# Altium footprint library Wurth_Elektronik_Passive_rev16a.PCBLIB: 810 footprints (part 48 of 51)
Each footprint in its own frame and in the unit in brackets; x right, y up, seen from the top. Pads: shape width x height; smd on the part's side, far side on the other; paste and mask are expansions set on the pad; w line width, h text height; cw(c..) or ccw(c..) is an arc to the next point about the centre after c.
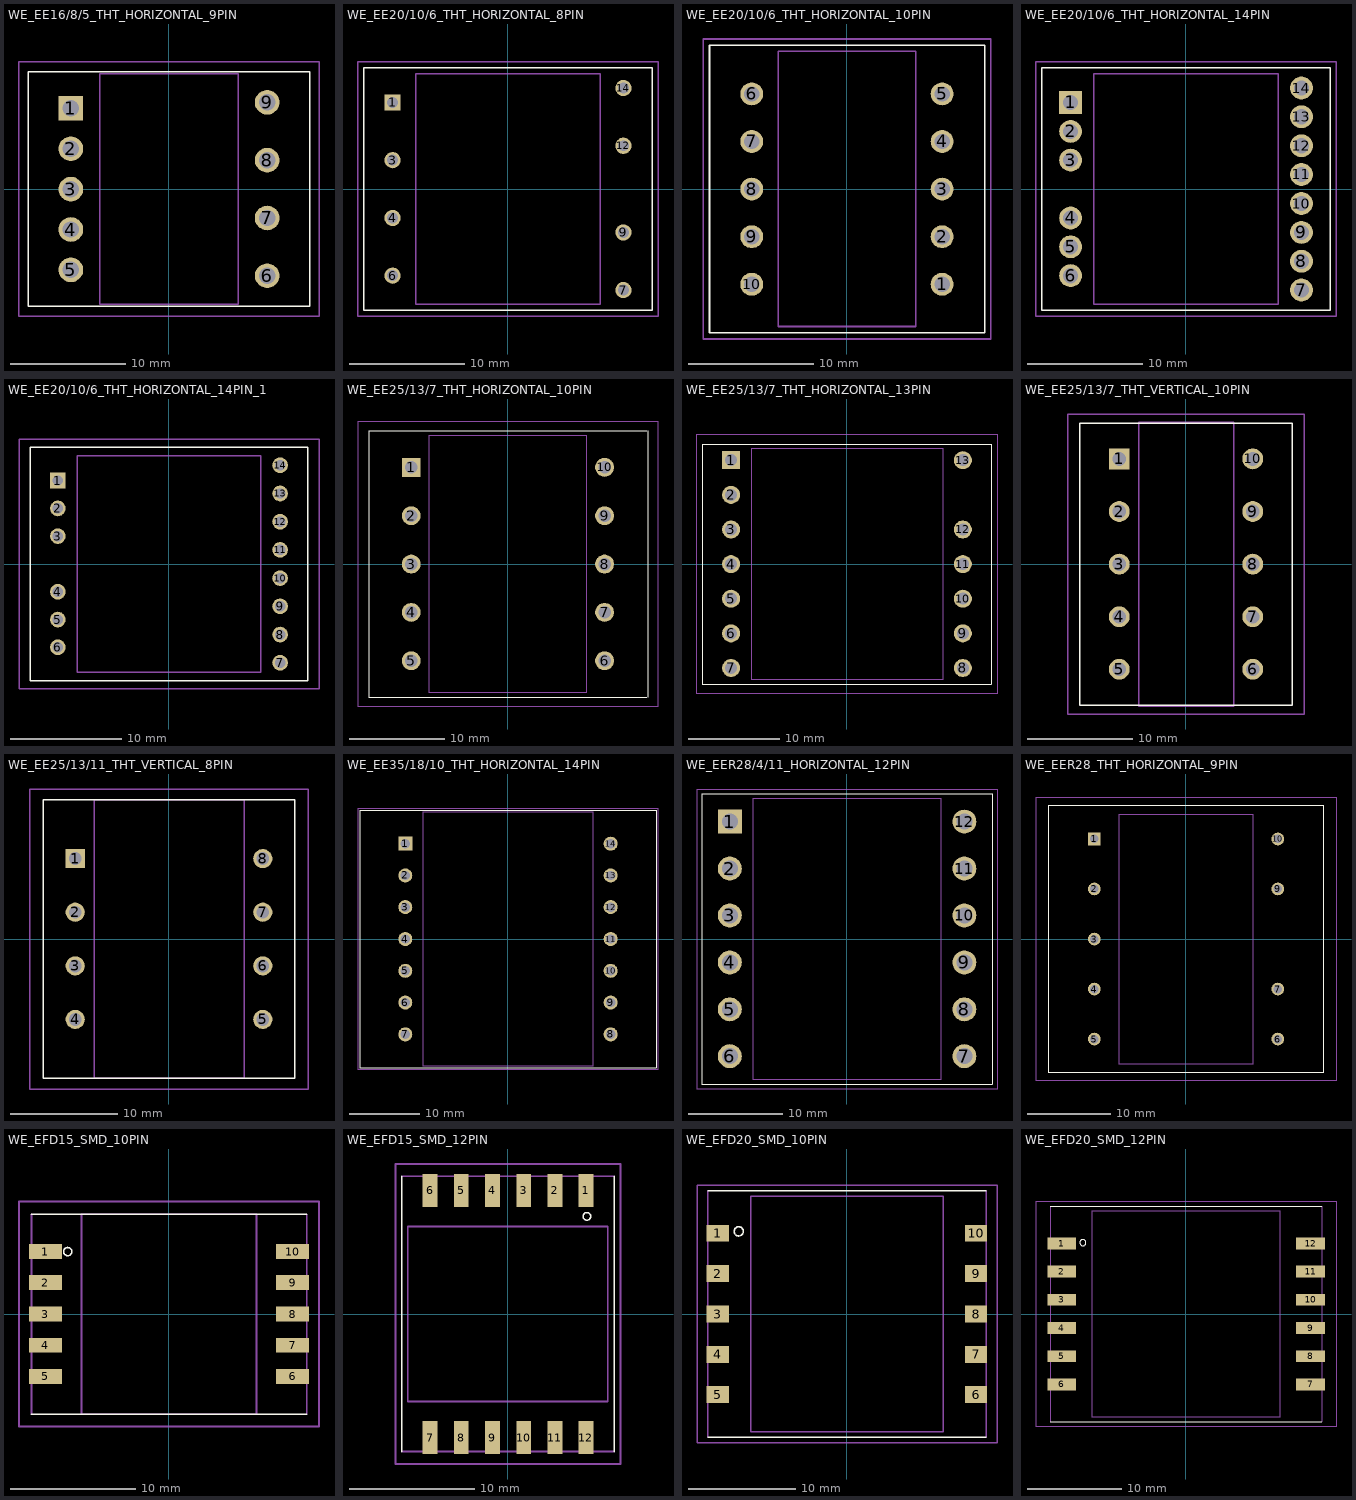
[diagram p47: the footprints below, top view; thin cyan lines are the x and y axes]

## WE_EE16/8/5_THT_HORIZONTAL_9PIN [mil]
pads (9):
  rect 84x84 hole 56: 1(-334.65,276)
  round 84 hole 56: 2(-334.65,138) 3(-334.65,0) 4(-334.65,-137.8) 5(-334.65,-275.59) 6(335,-295.28) 7(335,-98.43) 8(335,99) 9(335,296)
Top Overlay:
  lines w5: -479.92,-400 480,-400 480,400 -479.92,400 -479.92,-400
Mechanical 2:
  text ">NAME" at -590.61,557 h77.5
Mechanical 4:
  text ">VALUE" at -590.61,-626.31 h77.5
Mechanical 10:
  lines w5: -236.22,-393.7 237,-393.7 237,394 -236.22,394 -236.22,-393.7
Mechanical 27:
  lines w5: -511.81,-433.07 512,-433.07 512,434 -511.81,434 -511.81,-433.07

## WE_EE20/10/6_THT_HORIZONTAL_8PIN [mil]
pads (8):
  rect 55.5x55.5 hole 37: 1(-393.7,296)
  round 55.5 hole 37: 3(-393.7,99) 4(-393.7,-98.43) 6(-393.7,-295.28) 7(394,-344.49) 9(394,-147.64) 12(394,148) 14(394,345)
Top Overlay:
  lines w5: -492.13,-413.39 493,-413.39 493,414 -492.13,414 -492.13,-413.39
Mechanical 2:
  text ">NAME" at -630.93,587 h77.5
Mechanical 4:
  text ">VALUE" at -630.93,-656.54 h77.5
Mechanical 10:
  lines w5: -314.96,-393.7 315,-393.7 315,394 -314.96,394 -314.96,-393.7
Mechanical 27:
  lines w5: -511.81,-433.07 512,-433.07 512,434 -511.81,434 -511.81,-433.07

## WE_EE20/10/6_THT_HORIZONTAL_10PIN [mil]
pads (10):
  round 72 hole 48: 1(300,-300) 2(300,-150) 3(300,0) 4(300,150) 5(300,300) 6(-300,300) 7(-300,150) 8(-300,0) 9(-300,-150) 10(-300,-300)
Top Overlay:
  lines w5: -433.07,-452.76 434,-452.76 434,453 -433.07,453 -433.07,-452.76
Mechanical 2:
  text ">NAME" at -413.39,532 h77.5
Mechanical 4:
  text ">VALUE" at -374.02,-570.87 h77.5
Mechanical 10:
  lines w5: -216.54,-433.07 217,-433.07 217,434 -216.54,434 -216.54,-433.07
Mechanical 27:
  lines w5: -452.76,-472.44 453,-472.44 453,473 -452.76,473 -452.76,-472.44

## WE_EE20/10/6_THT_HORIZONTAL_14PIN [mil]
pads (14):
  rect 78x78 hole 52: 1(-393.7,296)
  round 78 hole 52: 2(-393.7,197) 3(-393.7,99) 4(-393.7,-98.43) 5(-393.7,-196.85) 6(-393.7,-295.28) 7(394,-344.49) 8(394,-246.06) 9(394,-147.64) 10(394,-49.21) 11(394,50) 12(394,148) 13(394,247) 14(394,345)
Top Overlay:
  lines w5: -492.13,-413.39 493,-413.39 493,414 -492.13,414 -492.13,-413.39
Mechanical 2:
  text ">NAME" at -492.13,473 h77.5
Mechanical 4:
  text ">VALUE" at -492.13,-531.5 h77.5
Mechanical 10:
  lines w5: -314.96,-393.7 315,-393.7 315,394 -314.96,394 -314.96,-393.7
Mechanical 27:
  lines w5: -511.81,-433.07 512,-433.07 512,434 -511.81,434 -511.81,-433.07

## WE_EE20/10/6_THT_HORIZONTAL_14PIN_1 [mil]
pads (14):
  rect 55.5x55.5 hole 37: 1(-393.7,296)
  round 55.5 hole 37: 2(-393.7,197) 3(-393.7,99) 4(-393.7,-98.43) 5(-393.7,-196.85) 6(-393.7,-295.28) 7(394,-350) 8(394,-250) 9(394,-150) 10(394,-50) 11(394,50) 12(394,150) 13(394,250) 14(394,350)
Top Overlay:
  lines w5: -492.13,-413.39 493,-413.39 493,414 -492.13,414 -492.13,-413.39
Mechanical 2:
  text ">NAME" at -492.13,483 h77.5
Mechanical 4:
  text ">VALUE" at -492.13,-551.18 h77.5
Mechanical 10:
  lines w5: -324.8,-383.86 325,-383.86 325,384 -324.8,384 -324.8,-383.86
Mechanical 27:
  lines w5: -531.5,-442.91 532,-442.91 532,443 -531.5,443 -531.5,-442.91

## WE_EE25/13/7_THT_HORIZONTAL_10PIN [mil]
pads (10):
  rect 78x78 hole 52: 1(-400,400)
  round 78 hole 52: 2(-400,200) 3(-400,0) 4(-400,-200) 5(-400,-400) 6(400,-400) 7(400,-200) 8(400,0) 9(400,200) 10(400,400)
Top Overlay:
  lines w5: 575,-551.18 -574.8,-551.18 -574.8,552 575,552 ; 579,-551.18 579,552
Mechanical 2:
  text ">NAME" at -561.02,621 h77.5
Mechanical 4:
  text ">VALUE" at -531.5,-659.45 h77.5
Mechanical 10:
  lines w5: -324.8,-531.5 325,-531.5 325,532 -324.8,532 -324.8,-531.5
Mechanical 27:
  lines w5: -620.08,-590.55 621,-590.55 621,591 -620.08,591 -620.08,-590.55

## WE_EE25/13/7_THT_HORIZONTAL_13PIN [mil]
pads (13):
  rect 78x78 hole 52: 1(-501.97,450)
  round 78 hole 52: 2(-501.97,300) 3(-501.97,150) 4(-501.97,0) 5(-501.97,-150) 6(-501.97,-300) 7(-501.97,-450) 8(502,-450) 9(502,-300) 10(502,-150) 11(502,0) 12(502,150) 13(502,450)
Top Overlay:
  lines w5: -625.98,-519.68 -625.98,520 626,520 626,-519.68 -625.98,-519.68
Mechanical 2:
  text ">NAME" at -600.39,591 h77.5
Mechanical 4:
  text ">VALUE" at -570.87,-639.76 h77.5
Mechanical 10:
  lines w5: -413.39,-501.97 414,-501.97 414,502 -413.39,502 -413.39,-501.97
Mechanical 27:
  lines w5: -649.61,-561.02 650,-561.02 650,562 -649.61,562 -649.61,-561.02

## WE_EE25/13/7_THT_VERTICAL_10PIN [mil]
pads (10):
  rect 78x78 hole 52: 1(-250,394)
  round 78 hole 52: 2(-250,197) 3(-250,0) 4(-250,-196.85) 5(-250,-393.7) 6(250,-393.7) 7(250,-196.85) 8(250,0) 9(250,197) 10(250,394)
Top Overlay:
  lines w5: -397.64,-527.56 398,-527.56 398,528 -397.64,528 -397.64,-527.56
Mechanical 2:
  text ">NAME" at -383.86,601 h77.5
Mechanical 4:
  text ">VALUE" at -383.86,-629.92 h77.5
Mechanical 10:
  lines w5: -177.17,-531.5 178,-531.5 178,532 -177.17,532 -177.17,-531.5
Mechanical 27:
  lines w5: -442.91,-561.02 443,-561.02 443,562 -442.91,562 -442.91,-561.02

## WE_EE25/13/11_THT_VERTICAL_8PIN [mil]
pads (8):
  rect 70.5x70.5 hole 47: 1(-344.88,296)
  round 70.5 hole 47: 2(-344.88,99) 3(-344.88,-98.43) 4(-344.88,-295.28) 5(345,-295.28) 6(345,-98.43) 7(345,99) 8(345,296)
Top Overlay:
  lines w5: -462.6,-511.81 463,-511.81 463,512 -462.6,512 -462.6,-511.81
Mechanical 2:
  text ">NAME" at -462.6,571 h77.5
Mechanical 4:
  text ">VALUE" at -462.6,-610.24 h77.5
Mechanical 10:
  lines w5: -275.59,-511.81 276,-511.81 276,512 -275.59,512 -275.59,-511.81
Mechanical 27:
  lines w5: -511.81,-551.18 512,-551.18 512,552 -511.81,552 -511.81,-551.18

## WE_EE35/18/10_THT_HORIZONTAL_14PIN [mil]
pads (14):
  rect 78x78 hole 52: 1(-572.83,532)
  round 78 hole 52: 2(-572.83,355) 3(-572.83,178) 4(-572.83,0) 5(-572.83,-177.17) 6(-572.83,-354.33) 7(-572.83,-531.5) 8(573,-531.5) 9(573,-354.33) 10(573,-177.17) 11(573,0) 12(573,178) 13(573,355) 14(573,532)
Top Overlay:
  lines w5: -826.77,-718.5 827,-718.5 827,719 -826.77,719 -826.77,-718.5
Mechanical 2:
  text ">NAME" at -826.77,788 h77.5
Mechanical 4:
  text ">VALUE" at -826.77,-866.14 h77.5
Mechanical 10:
  lines w5: -472.44,-708.66 473,-708.66 473,709 -472.44,709 -472.44,-708.66
Mechanical 27:
  lines w5: -836.61,-728.35 837,-728.35 837,729 -836.61,729 -836.61,-728.35

## WE_EER28/4/11_HORIZONTAL_12PIN [mil]
pads (12):
  rect 100.5x100.5 hole 67: 1(-492.13,493)
  round 100.5 hole 67: 2(-492.13,296) 3(-492.13,99) 4(-492.13,-98.43) 5(-492.13,-295.28) 6(-492.13,-492.13) 7(493,-492.13) 8(493,-295.28) 9(493,-98.43) 10(493,99) 11(493,296) 12(493,493)
Top Overlay:
  lines w5: -610.24,-610.24 611,-610.24 611,611 -610.24,611 -610.24,-610.24
Mechanical 2:
  text ">NAME" at -590.55,709 h77.5
Mechanical 4:
  text ">VALUE" at -551.18,-748.03 h77.5
Mechanical 10:
  lines w5: -393.7,-590.55 394,-590.55 394,591 -393.7,591 -393.7,-590.55
Mechanical 27:
  lines w5: -629.92,-629.92 630,-629.92 630,630 -629.92,630 -629.92,-629.92

## WE_EER28_THT_HORIZONTAL_9PIN [mil]
pads (9):
  rect 60x60 hole 40: 1(-433.07,473)
  round 60 hole 40: 2(-433.07,237) 3(-433.07,0) 4(-433.07,-236.22) 5(-433.07,-472.44) 6(434,-472.44) 7(434,-236.22) 9(434,237) 10(434,473)
Top Overlay:
  lines w5: -649.61,-629.92 650,-629.92 650,630 -649.61,630 -649.61,-629.92
Mechanical 2:
  text ">NAME" at -633.89,718 h77.5
Mechanical 4:
  text ">VALUE" at -633.89,-787.57 h77.5
Mechanical 10:
  lines w5: -314.96,-590.55 315,-590.55 315,591 -314.96,591 -314.96,-590.55
Mechanical 27:
  lines w5: -708.66,-669.29 709,-669.29 709,670 -708.66,670 -708.66,-669.29

## WE_EFD15_SMD_10PIN [mil]
pads (10):
  rect 104x47 smd: 1(-389.57,197) 2(-389.57,99) 3(-389.57,0) 4(-389.57,-98.03) 5(-389.57,-196.06) 6(390,-196.06) 7(390,-98.03) 8(390,0) 9(390,99) 10(390,197)
Top Overlay:
  circle w5: c-318.9,197 r13
  lines w5: -433.07,-314.96 434,-314.96 ; -433.07,315 434,315
Mechanical 2:
  text ">NAME" at -433.07,355 h77.5
Mechanical 4:
  text ">VALUE" at -433.07,-393.7 h77.5
Mechanical 10:
  lines w5: -275.59,-314.96 276,-314.96 276,315 -275.59,315 -275.59,-314.96
Mechanical 16:
  lines w5: -433.07,-314.96 -433.07,315 ; 434,-314.96 434,315
Mechanical 27:
  lines w5: -472.44,-354.33 473,-354.33 473,355 -472.44,355 -472.44,-354.33

## WE_EFD15_SMD_12PIN [mil]
pads (12):
  rect 47x104 smd: 1(246,390) 2(148,390) 3(50,390) 4(-49.02,390) 5(-147.05,390) 6(-245.08,390) 7(-245.08,-389.57) 8(-147.05,-389.57) 9(-49.02,-389.57) 10(50,-389.57) 11(148,-389.57) 12(246,-389.57)
Top Overlay:
  circle w5: c249,308 r12
  lines w5: -334.65,-433.07 -334.65,434 ; 335,-433.07 335,434
Mechanical 2:
  text ">NAME" at -313.39,-586.61 h77.5
Mechanical 4:
  text ">VALUE" at -363.39,548 h77.5
Mechanical 10:
  lines w5: -314.96,-275.59 315,-275.59 315,276 -314.96,276 -314.96,-275.59
Mechanical 16:
  lines w5: -334.65,-433.07 335,-433.07 ; -334.65,434 335,434
Mechanical 27:
  lines w5: -354.33,-472.44 355,-472.44 355,473 -354.33,473 -354.33,-472.44

## WE_EFD20_SMD_10PIN [mil]
pads (10):
  rect 82x62 smd: 1(-474.41,297) 2(-474.41,149) 3(-474.41,0) 4(-474.41,-148.03) 5(-474.41,-296.06) 6(475,-296.06) 7(475,-148.03) 8(475,0) 9(475,149) 10(475,297)
Top Overlay:
  circle w5: c-397.64,304 r17
  lines w5: -511.81,-452.76 512,-452.76 ; -511.81,453 512,453
Mechanical 2:
  text ">NAME" at -492.13,512 h77.5
Mechanical 4:
  text ">VALUE" at -492.13,-551.18 h77.5
Mechanical 10:
  lines w5: -354.33,-433.07 355,-433.07 355,434 -354.33,434 -354.33,-433.07
Mechanical 16:
  lines w5: -511.81,-452.76 -511.81,453 ; 512,-452.76 512,453
Mechanical 27:
  lines w5: -551.18,-472.44 552,-472.44 552,473 -551.18,473 -551.18,-472.44

## WE_EFD20_SMD_12PIN [mil]
pads (12):
  rect 121x50 smd: 1(-522.05,296) 2(-522.05,178) 3(-522.05,60) 4(-522.05,-59.06) 5(-522.05,-177.17) 6(-522.05,-295.28) 7(523,-295.28) 8(523,-177.17) 9(523,-59.06) 10(523,60) 11(523,178) 12(523,296)
Top Overlay:
  circle w5: c-433.07,300 r13
  lines w5: -570.87,-452.76 571,-452.76 ; -570.87,453 571,453
Mechanical 2:
  text ">NAME" at -570.87,532 h77.5
Mechanical 4:
  text ">VALUE" at -570.87,-610.24 h77.5
Mechanical 10:
  lines w5: -393.7,-433.07 394,-433.07 394,434 -393.7,434 -393.7,-433.07
Mechanical 16:
  lines w5: -570.87,-452.76 -570.87,453 ; 571,-452.76 571,453
Mechanical 27:
  lines w5: -629.92,-472.44 630,-472.44 630,473 -629.92,473 -629.92,-472.44